# EAGLE library part SFW10R (library con-fci)
FPC Connector
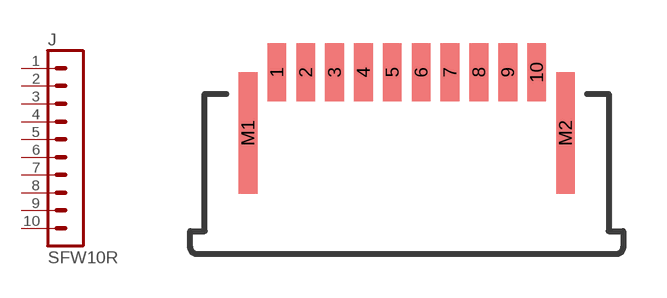
[diagram p2: symbol with the pads of SFW10R; footprint SFW10R]

Designator prefix J

## SFW10R  [SFW10R]
1  1  pas
2  2  pas
3  3  pas
4  4  pas
5  5  pas
6  6  pas
7  7  pas
8  8  pas
9  9  pas
10  10  pas

## Footprint SFW10R (pad centres in mm)
FFC/FPC - 1mm Right Angle, SMT Bottom Contact
smd 0.65 x 2: 1 -4.5,1; 2 -3.5,1; 3 -2.5,1; 4 -1.5,1; 5 -0.5,1; 6 0.5,1; 7 1.5,1; 8 2.5,1; 9 3.5,1; 10 4.5,1
smd 0.65 x 4.2: M1 -5.5,-1.1; M2 5.5,-1.1